# EAGLE library part GKICD02SMD (library 029000100  -  gKEagleLibrary)
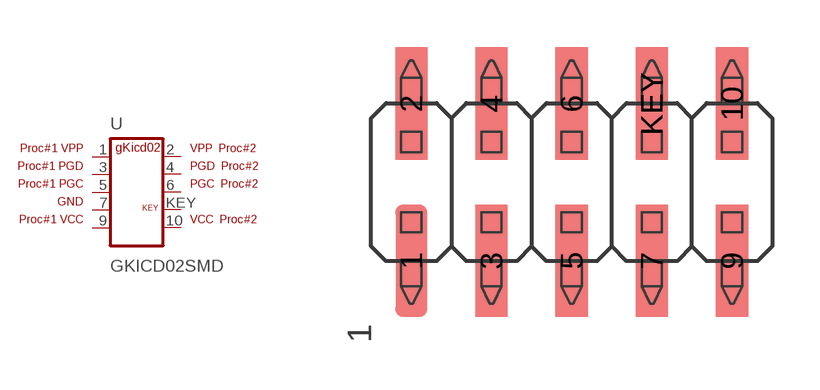
[diagram p1: symbol with the pads of GKICD2SMD; footprint GKICD2SMD]

Designator prefix -

## GKICD02SMD  [GKICD2SMD]
1  VPP1  pas
2  VPP2  pas
3  PGD1  pas
4  PGD2  pas
5  PGC1  pas
6  PGC2  pas
7  GND  pwr
9  VCC1  pwr
10  VCC2  pwr
KEY  KEY  nc

## Footprint GKICD2SMD (pad centres in mm)
smd 1.016 x 3.556: 1 -5.08,-2.488; 2 -5.08,2.488; 3 -2.54,-2.488; 4 -2.54,2.488; 5 0,-2.488; 6 0,2.488; 7 2.54,-2.488; 9 5.08,-2.488; 10 5.08,2.488; KEY 2.54,2.488